# Altium schematic symbol library Phaseshifters.SchLib: 1 symbol
Pins are listed as number, name and electrical type; pins without a type are passive.

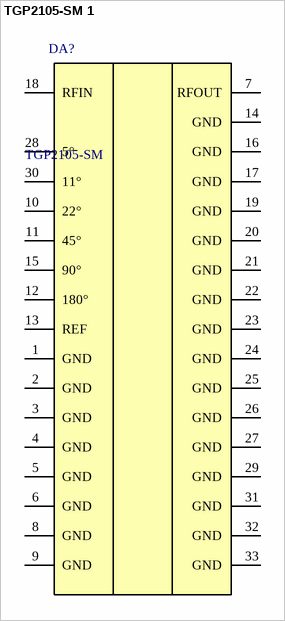
[diagram p0: symbol TGP2105-SM 1]

## TGP2105-SM 1
designator DA?, comment TGP2105-SM
6 - 18 GHz 6-Bit Digital Phase Shifter (+Vc); Manufacturer: Qorvo; PartNumber: TGP2105-SM; ComponentLink1Description: Component Page; ComponentLink1URL: https://www.qorvo.com/products/p/TGP2105-SM
footprint QFN33P50_500X500X80L46X25T340N (Quad Flat No-Lead (QFN with Tab), 0.50 mm pitch; square, 8 pin X 8 pin, 5.00 mm L X 5.00 mm W X 0.80 mm H body)
pins: 1 GND, 2 GND, 3 GND, 4 GND, 5 GND, 6 GND, 7 RFOUT, 8 GND, 9 GND, 10 22°, 11 45°, 12 180°, 13 REF, 14 GND, 15 90°, 16 GND, 17 GND, 18 RFIN, 19 GND, 20 GND, 21 GND, 22 GND, 23 GND, 24 GND, 25 GND, 26 GND, 27 GND, 28 5°, 29 GND, 30 11°, 31 GND, 32 GND, 33 GND